# Altium footprint library L22.PcbLib: 12 footprints
Each footprint in its own frame and in the unit in brackets; x right, y up, seen from the top. Pads: shape width x height; smd on the part's side, far side on the other; paste and mask are expansions set on the pad; w line width, h text height; cw(c..) or ccw(c..) is an arc to the next point about the centre after c.
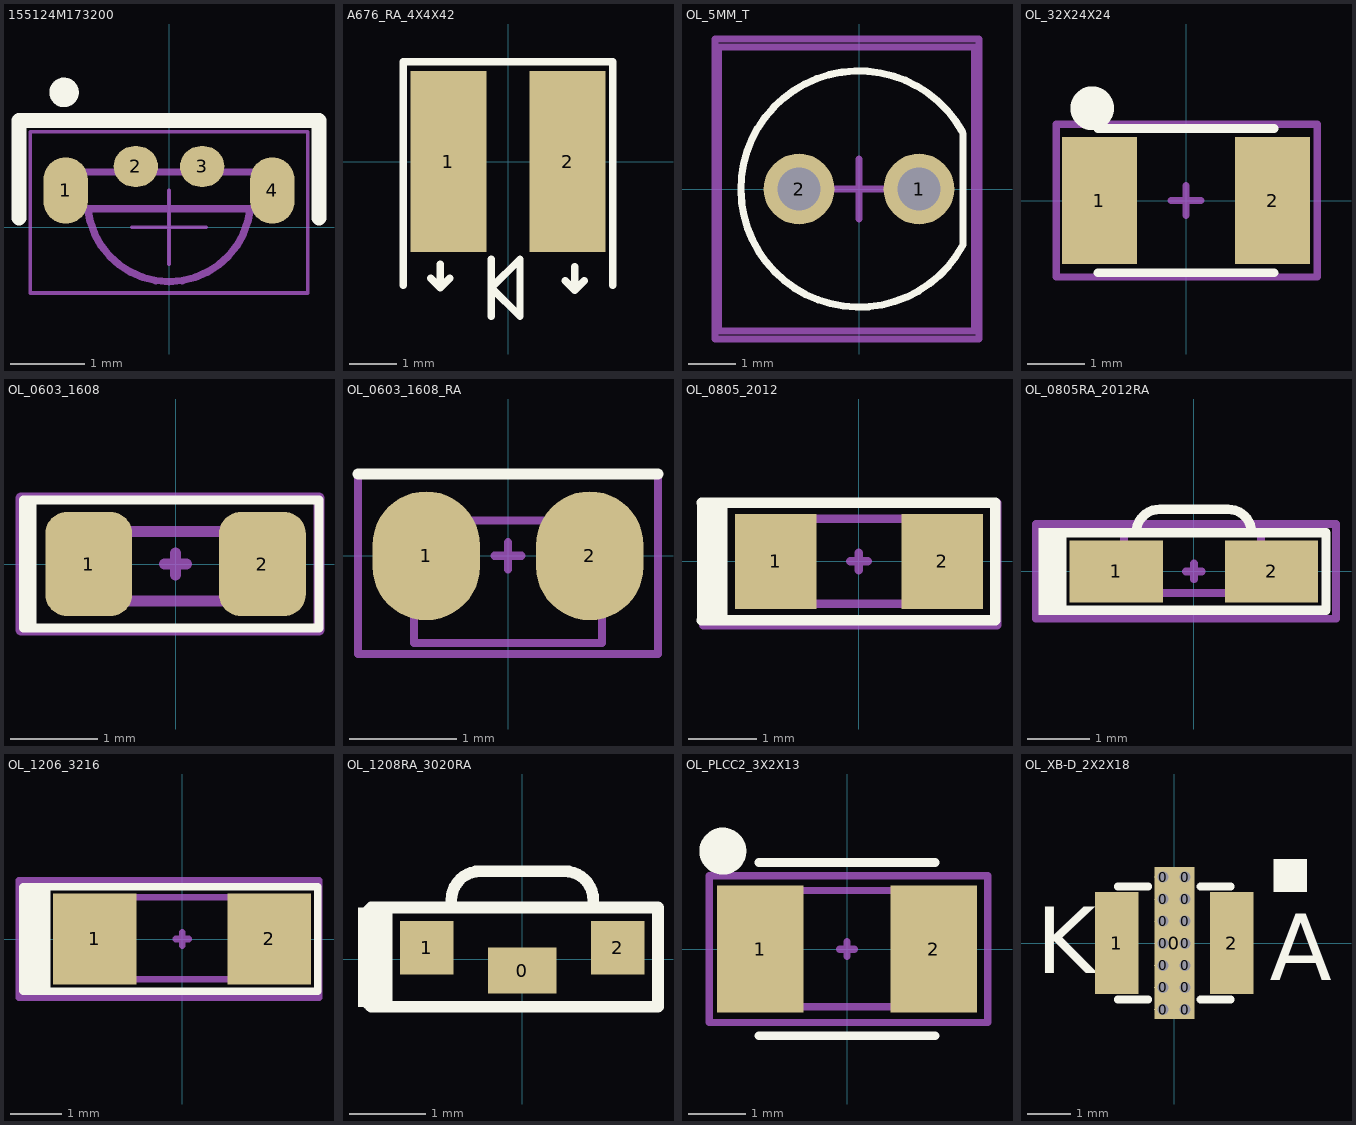
[diagram p0: the footprints below, top view; thin cyan lines are the x and y axes]

## 155124M173200 [mm]
pads (4):
  oval 0.6x0.9 smd: 1(-1.4,0.5) 4(1.4,0.5)
  oval 0.6x0.55 smd: 2(-0.45,0.825) 3(0.45,0.825)
Top Overlay:
  circle w0.2: c-1.422,1.829 r0.1
  lines w0.2: -2.032,0.127 -2.032,1.448 0,1.448 2.032,1.448 2.032,0.127
Assembly Top:
  lines w0.1: -1.1,0.25 ccw(c0,0.372) 1.1,0.25 ; -1.1,0.25 -1.6,0.25 -1.6,0.75 1.6,0.75 1.6,0.25 1.1,0.25 ; -1.1,0.25 1.1,0.25
Courtyard Top:
  lines w0.05: -0.5,0 0.5,0 ; 0,-0.5 0,0.5 ; -1.88,-0.889 -1.88,1.295 1.88,1.295 1.88,-0.889 -1.88,-0.889
3D body "dioda.STEP": height 1.03, standoff 0.03, extent -1.6,-0.738 1.6,0.762

## A676_RA_4X4X42 [mm]
pads (2):
  rect 1.6x3.8 smd: 1(-1.25,0) 2(1.25,0)
Top Overlay:
  lines w0.152: -2.2,-2.6 -2.2,1.2 -2.2,2.1 ; -2.2,1.5 -2.2,2.1 ; -1.625,-2.45 -1.425,-2.65 ; -1.425,-2.15 -1.425,-2.65 ; -1.225,-2.45 -1.425,-2.65 ; -0.35,-3.249 -0.35,-2.649 ; -0.35,-2.049 -0.35,-2.649 ; 1.2,-2.5 1.4,-2.7 ; 1.4,-2.2 1.4,-2.7 ; 1.6,-2.5 1.4,-2.7 ; 2.2,-2.6 2.2,1.3 2.2,2.1 ; 2.2,1.5 2.2,2.1 ; -2.2,2.1 2.2,2.1 ; -0.35,-2.649 0.25,-2.049 0.25,-2.649 0.25,-3.249 -0.35,-2.649

## OL_5MM_T [mm]
pads (2):
  round 1.5 hole 0.9: 1(1.27,0) 2(-1.27,0)
Top Overlay:
  lines w0.152: 2.184,1.216 ccw(c0,0) 2.2,-1.188 ; 2.2,-1.175 2.2,1.175
Mechanical 1:
  lines w0.15: -0.635,0 0,0 ; 0,-0.635 0,0 ; 0,0.635 0,0 ; 0.635,0 0,0 ; 2.159,3.175 2.54,3.175 2.54,-3.175 -3.048,-3.175 -3.048,3.175 2.413,3.175
Courtyard Bottom:
  lines w0.15: -2.98,-3.01 2.44,-3.01 2.44,3.01 -2.98,3.01 -2.98,-3.01
3D body "User Library-LEDd5C.STEP": height 12.31, standoff -2.49, extent -2.98,-3.01 2.44,3.01

## OL_32X24X24 [mm]
pads (2):
  rect 1.3x2.2 smd: 1(-1.5,0) 2(1.5,0)
Top Overlay:
  circle w0.508: c-1.625,1.6 r0.125
  lines w0.152: -1.525,-1.25 1.525,-1.25 ; -1.525,1.25 1.525,1.25
Mechanical 15:
  lines w0.127: -0.254,0 0.254,0 ; 0,-0.254 0,0.254 ; -2.25,-1.325 2.275,-1.325 2.275,1.325 -2.25,1.325 -2.25,-1.325

## OL_0603_1608 [mm]
pads (2):
  rrect50% 1x1.2 smd: 1(-1,0) 2(1,0)
Top Overlay:
  rectangle: -1.803,-0.737 -1.6,0.737
  lines w0.1: -1.753,-0.737 1.651,-0.737 1.651,0.737 -1.753,0.737
Assembly Top:
  lines w0.127: -0.635,-0.254 -0.635,0.254 ; -0.809,-0.425 -0.809,0.375 0.791,0.375 0.791,-0.425 -0.809,-0.425
Courtyard Top:
  lines w0.127: -0.127,0 0.127,0 ; 0,-0.127 0,0.127 ; -1.778,-0.762 -1.778,0.762 1.651,0.762 1.651,-0.762 -1.778,-0.762
3D body "LED 0603 APT1608 YELLOW.STEP": height 0.75, standoff 0, extent -0.809,-0.425 0.791,0.375

## OL_0603_1608_RA [mm]
pads (2):
  oval 1x1.2 smd mask+0.1: 1(-0.762,0) 2(0.762,0)
Top Overlay:
  lines w0.1: -1.397,0.762 1.397,0.762
Mechanical 13:
  lines w0.076: -0.875,-0.813 -0.875,0.33 0.875,0.33 0.875,-0.813 -0.875,-0.813
Mechanical 15:
  lines w0.076: -0.127,0 0.127,0 ; 0,-0.127 0,0.127 ; -1.397,-0.914 -1.397,0.762 1.397,0.762 1.397,-0.914 -1.397,-0.914
Mechanical 17:
  text "'.Designator'" at -1.346,-0.178 h0.2
3D body "User Library-LTST-S270KFKT.step": height 0.6, standoff 0, extent -0.8,-0.82 0.85,0.33

## OL_0805_2012 [mm]
pads (2):
  rect 1.2x1.4 smd: 1(-1.225,0) 2(1.225,0)
Top Overlay:
  rectangle: -2.38,-0.864 -1.93,0.836
  lines w0.152: -2.311,-0.864 2.007,-0.864 2.007,0.864 -2.311,0.864
Mechanical 13:
  lines w0.127: -0.762,-0.381 -0.762,0.381 ; -1,-0.625 -1,0.625 1,0.625 1,-0.625 -1,-0.625
Mechanical 15:
  lines w0.127: -0.127,0 0.127,0 ; 0,-0.127 0,0.127 ; -2.286,-0.94 -2.286,0.864 2.032,0.864 2.032,-0.94 -2.286,-0.94
Mechanical 17:
  text "'.Designator'" at -0.889,-0.127 h0.25
Mechanical 19:
  text "'.Comment'" at -0.889,-0.127 h0.25
3D body: height 0.8, standoff 0.3, extent -0.7,-0.625 0.7,0.625
3D body: height 0.3, standoff 0.1, extent -1,-0.625 1,0.625

## OL_0805RA_2012RA [mm]
pads (2):
  rect 1.5x1 smd: 1(-1.25,0) 2(1.25,0)
Top Overlay:
  rectangle: -2.5,-0.7 -2.05,0.7
  lines w0.152: -2.4,-0.625 2.125,-0.625 2.125,0.625 -2.4,0.625 ; -0.929,0.621 cw(c-0.55,0.621) -0.55,1 0.55,1 cw(c0.55,0.621) 0.929,0.621
Mechanical 13:
  lines w0.127: -1.123,-0.35 -1.123,0.762 1.077,0.762 1.077,-0.35 -1.123,-0.35
Mechanical 15:
  lines w0.127: -0.127,0 0.127,0 ; 0,-0.127 0,0.127 ; -2.54,-0.762 2.286,-0.762 2.286,0.762 -2.54,0.762 -2.54,-0.762
Mechanical 17:
  text "'.Designator'" at -1.143,-0.127 h0.25
Mechanical 19:
  text "'.Comment'" at -1.143,-0.127 h0.25
3D body "LED_SIDELED-2.1x0.6x1.0 WHITE maxtol.STEP": height 1, standoff 0.3, extent -1.123,-0.204 1.077,0.896

## OL_1206_3216 [mil]
pads (2):
  rect 64x70 smd: 1(-67,0) 2(67,0)
Top Overlay:
  rectangle: -122.12,-39.37 -104.4,39.37
  lines w6: -94.56,40 -121.49,40 -122.12,39.37 -122.12,-39.37 -121.49,-40 -90.62,-40 ; -104,-40 -104,40 -35,40 104,40 104,-40 -104,-40
Mechanical 13:
  lines w5: -69.99,-30.99 56,-30.99 56,32.01 -69.99,32.01 -69.99,-30.99
Mechanical 15:
  lines w5: -5,0 5,0 ; 0,-5 0,5 ; -125,-45 105,-45 105,45 -125,45 -125,-45
Mechanical 17:
  text "'.Designator'" at -55,-5 h15
Mechanical 19:
  text "'.Comment'" at -55,-5 h15
3D body "SW3dPS-LED1206G.STEP": height 43.81, standoff -15.9, extent -69.99,-30.99 56,32.01

## OL_1208RA_3020RA [mm]
pads (3):
  rect 0.9x0.6 smd: 0(0,-0.15)
  rect 0.7x0.7 smd: 1(-1.25,0.15) 2(1.25,0.15)
Top Overlay:
  rectangle: -2.15,-0.625 -1.7,0.675
  lines w0.152: -2.025,-0.575 -1.975,-0.625 1.775,-0.625 1.775,0.675 -1.975,0.675 -2.025,0.625 ; -0.929,0.7 -0.929,0.771 cw(c-0.55,0.771) -0.55,1.15 0.55,1.15 cw(c0.55,0.771) 0.929,0.771 0.929,0.675

## OL_PLCC2_3X2X13 [mm]
pads (2):
  rect 1.5x2.2 smd: 1(-1.5,0) 2(1.5,0)
Top Overlay:
  circle w0.508: c-2.152,1.7 r0.152
  lines w0.152: -1.525,-1.5 1.525,-1.5 ; -1.525,1.5 1.525,1.5
Mechanical 13:
  lines w0.127: -1.476,-1 1.524,-1 1.524,1.016 -1.476,1.016 -1.476,-1
Mechanical 15:
  lines w0.127: -0.127,0 0.127,0 ; 0,-0.127 0,0.127 ; -2.389,-1.27 2.437,-1.27 2.437,1.27 -2.389,1.27 -2.389,-1.27
Mechanical 17:
  text "'.Designator'" at -1.397,-0.127 h0.38
Mechanical 19:
  text "'.Comment'" at -1.397,-0.127 h0.38
3D body "User Library-PLCC2-3_0x2_0.step": height 1.29, standoff -0.02, extent -1.476,-1 1.524,1

## OL_XB-D_2X2X18 [mil]
pads (17):
  round 16 hole 10: 0(-9.98,-60.23) 0(-9.98,-40.23) 0(-9.98,-20.23) 0(-9.98,-0.23) 0(-9.98,19.77) 0(-9.98,39.77) 0(-9.98,59.77) 0(10.02,-60.23) 0(10.02,-40.23) 0(10.02,-20.23) 0(10.02,-0.23) 0(10.02,19.77) 0(10.02,39.77) 0(10.02,59.77)
  rect 36.22x137.79 smd: 0(0.21,0)
  rect 39.37x92.13 smd: 1(-51.76,0) 2(52.18,0)
Top Overlay:
  rectangle: 90.21,46.23 120.21,76.23
  lines w7: -50.97,-51.18 -23.41,-51.18 ; -50.97,51.18 -23.41,51.18 ; 23.83,-51.18 51.39,-51.18 ; 23.84,51.18 51.39,51.18
  text "K" at -125,-27.56 h60
  text "A" at 86.61,-33.46 h60
Top Paste:
  region: 68,42 47,42 47,-42 68,-42
  rectangle: -67,-42 -46,42
Courtyard Top:
  circle w6: c0,0 r10
3D body "User Library-led SMD 3_2X2_8 MM.step": height 77.95, standoff 0, extent -72.62,-59.05 73.05,59.06